# EAGLE library part USB4105-GF-A (library Connectors)
USB Type C Receptacle for USB 2.0
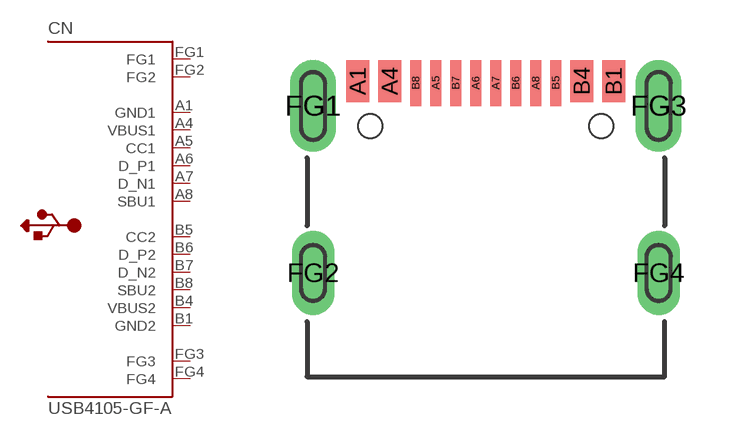
[diagram p9: symbol with the pads of USB4105-GF-A; footprint USB4105-GF-A]

Designator prefix CN

## USB4105-GF-A  [USB4105-GF-A]
A1  GND1  pas
A4  VBUS1  pas
A5  CC1  pas
A6  D_P1
A7  D_N1
A8  SBU1  pas
B1  GND2  pas
B4  VBUS2  pas
B5  CC2  pas
B6  D_P2
B7  D_N2
B8  SBU2  pas
FG1  FG1  pas
FG2  FG2
FG3  FG3  pas
FG4  FG4  pas

## Footprint USB4105-GF-A (pad centres in mm)
USB Type C Receptacle for USB 2.0
smd 0.58 x 1.05: A1 -3.2,0.625; A4 -2.4,0.625; B1 3.2,0.625; B4 2.4,0.625
smd 0.28 x 1.15: A5 -1.25,0.575; A6 -0.25,0.575; A7 0.25,0.575; A8 1.25,0.575; B5 1.75,0.575; B6 0.75,0.575; B7 -0.75,0.575; B8 -1.75,0.575
drill 0.55 pad 1.15 long: FG1 -4.32,0; FG3 4.32,0
drill 0.55 pad 1.05 long: FG2 -4.32,-4.18; FG4 4.32,-4.18
hole 0.6 at -2.89,-0.5
hole 0.6 at 2.89,-0.5